# Altium footprint library Soldeerstation.PcbLib: 40 footprints (part 2 of 3)
Each footprint in its own frame and in the unit in brackets; x right, y up, seen from the top. Pads: shape width x height; smd on the part's side, far side on the other; paste and mask are expansions set on the pad; w line width, h text height; cw(c..) or ccw(c..) is an arc to the next point about the centre after c.
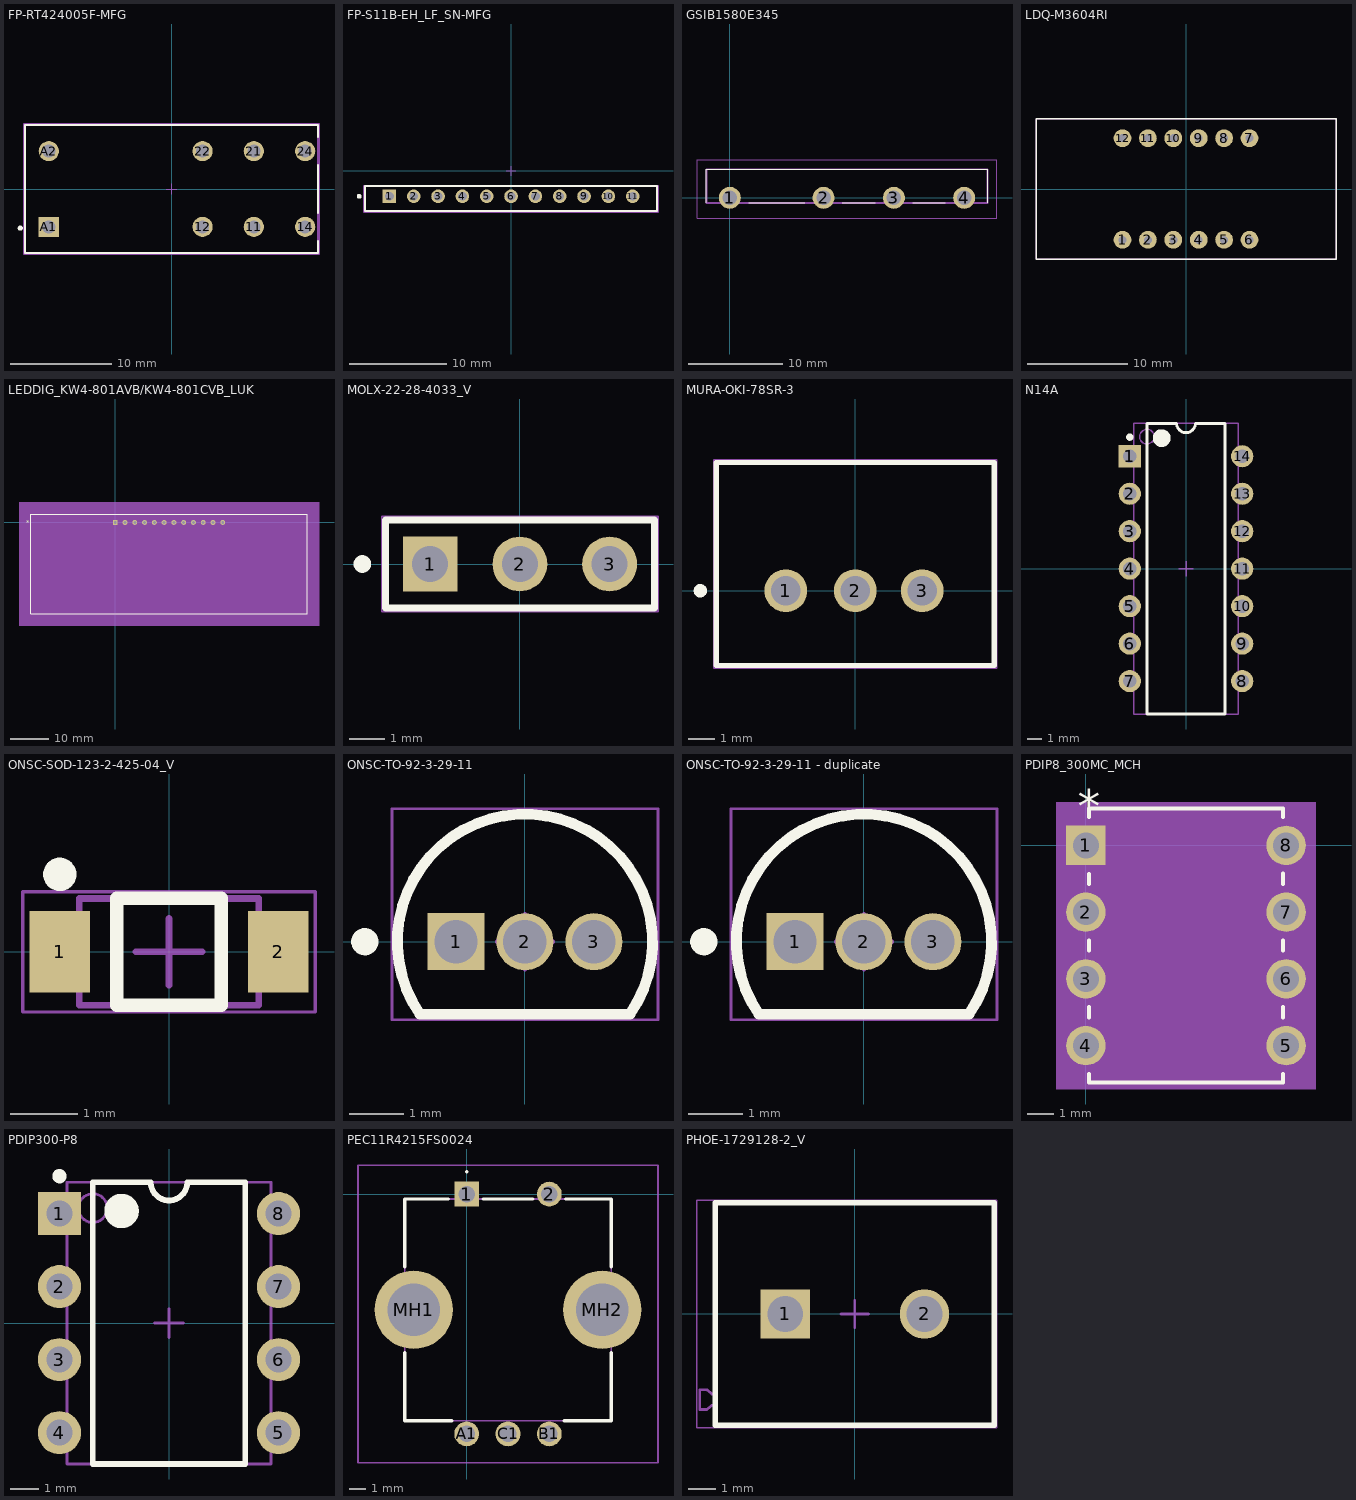
[diagram p1: the footprints below, top view; thin cyan lines are the x and y axes]

## FP-RT424005F-MFG [mm]
pads (8):
  round 2 hole 1.3 paste-1000 mask+0: 11(8.15,-3.75) 12(3.07,-3.75) 14(13.23,-3.75) 21(8.15,3.75) 22(3.07,3.75) 24(13.23,3.75) A2(-12.15,3.75)
  rect 2x2 hole 1.3 paste-1000 mask+0: A1(-12.15,-3.75)
Top Overlay:
  circle w0.25: c-14.975,-3.875 r0.125
  lines w0.2: 14.5,-5.125 14.5,-6.35 -14.5,-6.35 -14.5,6.35 14.5,6.35 14.5,5.125 ; 14.5,-2.375 14.5,2.375
Top Assembly:
  lines w0.2: -14.6,-6.45 -14.6,6.45 14.6,6.45 14.6,-6.45 -14.6,-6.45
  text ".Designator" at 0,0.188 h1
Top 3D Body:
  lines w0.2: -14.5,-6.35 -14.5,6.35 14.5,6.35 14.5,-6.35 -14.5,-6.35
Top Courtyard:
  lines w0.2: -14.6,-6.45 -14.6,6.45 14.6,6.45 14.6,-6.45 -14.6,-6.45
Top Component Center:
  lines w0.1: -0.5,0 0.5,0 ; 0,-0.5 0,0.5
3D body "Relay_TE_Connectivity_RT424005F_eec.STEP": height 0.25, standoff 0, extent -14.6,-6.45 14.6,6.45

## FP-S11B-EH_LF_SN-MFG [mm]
pads (11):
  rect 1.4x1.4 hole 0.9 paste-1000 mask+0: 1(-12.5,-2.6)
  round 1.4 hole 0.9 paste-1000 mask+0: 2(-10,-2.6) 3(-7.5,-2.6) 4(-5,-2.6) 5(-2.5,-2.6) 6(0,-2.6) 7(2.5,-2.6) 8(5,-2.6) 9(7.5,-2.6) 10(10,-2.6) 11(12.5,-2.6)
Top Overlay:
  circle w0.25: c-15.6,-2.6 r0.125
  lines w0.2: -15,-4.1 -15,-1.524 15,-1.524 15,-4.1 -15,-4.1
Top Assembly:
  lines w0.2: -15.1,-4.2 -15.1,-1.524 15.1,-1.524 15.1,-4.2 -15.1,-4.2
  text ".Designator" at 0,0.188 h1
Top 3D Body:
  lines w0.2: -15,-4.191 -15,-1.524 15,-1.524 15,-4.191 -15,-4.191
Top Courtyard:
  lines w0.2: -15.1,-4.2 -15.1,-1.524 15.1,-1.524 15.1,-4.2 -15.1,-4.2
Top Component Center:
  lines w0.1: -0.5,0 0.5,0 ; 0,-0.5 0,0.5
3D body "Conn_JST_S11B-EH_LF_SN_eec.STEP": height 0.25, standoff 0, extent -15.1,-6.749 15.1,1.651

## GSIB1580E345 [mm]
pads (4):
  round 2.34 hole 1.56: 1(0,0) 2(10,0) 3(17.5,0) 4(25,0)
Top Overlay:
  lines w0.1: -2.5,-0.55 -2.5,3.05 27.5,3.05 27.5,-0.55 ; 2,-0.55 8,-0.55 ; 12,-0.55 15.5,-0.55 ; 19.5,-0.55 23,-0.55
Top Courtyard:
  lines w0.2: -2.5,-0.55 27.5,-0.55 27.5,3.05 -2.5,3.05 -2.5,-0.55
Bottom Assembly:
  lines w0.1: -3.5,-2.17 28.5,-2.17 28.5,4.05 -3.5,4.05 -3.5,-2.17
3D body "GSIB1580-E3_45.stp": height 5.8, standoff -4.65, extent -10,-3.376 10,3.376

## LDQ-M3604RI [mil]
pads (12):
  round 70 hole 31.5: 1(-250,-200) 2(-150,-200) 3(-50,-200) 4(50,-200) 5(150,-200) 6(250,-200) 7(250,200) 8(150,200) 9(50,200) 10(-50,200) 11(-150,200) 12(-250,200)
Top Overlay:
  lines w5: -590.55,-275.59 -590.55,275.59 590.55,275.59 590.55,-275.59 -590.55,-275.59
Top 3D Body:
  lines w5: -590.55,-275.59 590.55,-275.59 590.55,275.59 -590.55,275.59 -590.55,-275.59
3D body "step_temp.STEP": height 283.46, standoff -240.16, extent -590.55,-275.59 590.55,275.59

## LEDDIG_KW4-801AVB/KW4-801CVB_LUK [mil]
pads (12):
  rect 50x50 hole 30 mask+0: 1(0,0)
  round 50 hole 30 mask+0: 2(100,0) 3(200,0) 4(300,0) 5(400,0) 6(500,0) 7(600,0) 8(700,0) 9(800,0) 10(900,0) 11(1000,0) 12(1100,0)
Top Overlay:
  lines w6: -865.5,-936.7 -865.5,86.3 1965.5,86.3 1965.5,-936.7 -865.5,-936.7
  text "*" at -913,-25 h50
Top Assembly:
  region: 2085.5,-1056.7 -985.5,-1056.7 -985.5,206.3 2085.5,206.3
Top 3D Body:
  lines w1: -860.5,-931.7 -860.5,81.3 1960.5,81.3 1960.5,-931.7 -860.5,-931.7
  text "*" at -863,-25 h50
Top Courtyard:
  region: 1970.5,-941.7 -870.5,-941.7 -870.5,91.3 1970.5,91.3
  lines w6: -870.5,-941.7 1970.5,-941.7 1970.5,91.3 -870.5,91.3 -870.5,-941.7
3D body: height 10, standoff 0, extent 0,0 10,10

## MOLX-22-28-4033_V [mm] "THD, 3-Leads, Body 7.62x2.49mm, Pitch 2.54mm"
height 8.38
pads (3):
  rect 1.55x1.55 hole 1.02: 1(-2.54,0)
  round 1.55 hole 1.02: 2(0,0) 3(2.54,0)
Top Overlay:
  circle w0.25: c-4.46,0 r0.125
  lines w0.2: -3.81,-1.245 3.81,-1.245 3.81,1.245 -3.81,1.245 -3.81,-1.245
Top 3D Body:
  lines w0.1: -3.81,-1.245 3.81,-1.245 3.81,1.245 -3.81,1.245 -3.81,-1.245
Top Courtyard:
  lines w0.05: -3.91,-1.345 -3.91,1.345 3.91,1.345 3.91,-1.345 -3.91,-1.345
  lines w0.1: -0.5,0 0.5,0 ; 0,-0.5 0,0.5
3D body "022284033.stp": height 8.38, standoff -3.18, extent -3.81,-1.245 3.81,1.245

## MURA-OKI-78SR-3 [mm] "THMT, 3-Leads, Body 10.4x7.6mm"
height 16.5
pads (3):
  round 1.6 hole 1.1: 1(-2.6,0) 2(0,0) 3(2.5,0)
Top Overlay:
  circle w0.25: c-5.8,0 r0.125
  lines w0.2: -5.2,-2.8 -5.2,4.8 5.2,4.8 5.2,-2.8 -5.2,-2.8
Top 3D Body:
  lines w0.1: -5.2,-2.8 5.2,-2.8 5.2,4.8 -5.2,4.8 -5.2,-2.8
Top Courtyard:
  lines w0.05: -5.3,-2.9 5.3,-2.9 5.3,4.9 -5.3,4.9 -5.3,-2.9
  lines w0.1: -0.5,0 0.5,0 ; 0,-0.5 0,0.5
3D body: height 16.5, standoff 0, extent -5.2,-2.8 5.2,4.8

## N14A [mm] "DIP, 14-Pin, Row Spacing 7.62 mm, Pitch 2.54 mm"
height 5.08
pads (14):
  rect 1.5x1.5 hole 0.9: 1(-3.81,7.62)
  round 1.5 hole 0.9: 2(-3.81,5.08) 3(-3.81,2.54) 4(-3.81,0) 5(-3.81,-2.54) 6(-3.81,-5.08) 7(-3.81,-7.62) 8(3.81,-7.62) 9(3.81,-5.08) 10(3.81,-2.54) 11(3.81,0) 12(3.81,2.54) 13(3.81,5.08) 14(3.81,7.62)
Top Overlay:
  circle w0.6: c-1.65,8.85 r0.3
  circle w0.25: c-3.81,8.92 r0.125
  lines w0.2: -2.65,-9.85 2.65,-9.85 2.65,9.85 0.635,9.85 cw(c0,9.85) -0.635,9.85 -2.65,9.85 -2.65,-9.85
Top 3D Body:
  circle w0.1: c-2.65,8.95 r0.5
  lines w0.1: -3.55,-9.85 3.55,-9.85 3.55,9.85 -3.55,9.85 -3.55,-9.85
Top Courtyard:
  lines w0.1: -0.5,0 0.5,0 ; 0,-0.5 0,0.5
3D body: height 5.33, standoff 0, extent -3.55,-9.85 3.55,9.85

## ONSC-SOD-123-2-425-04_V [mm] "SOD, 2-Leads, Body 2.69x1.6mm"
height 1.35
pads (2):
  rect 0.91x1.22 smd: 1(-1.635,0) 2(1.635,0)
Top Overlay:
  circle w0.25: c-1.635,1.16 r0.125
  lines w0.2: -0.78,-0.8 -0.78,0.8 0.78,0.8 0.78,-0.8 -0.78,-0.8
Top 3D Body:
  lines w0.1: -1.345,-0.8 -1.345,0.8 1.345,0.8 1.345,-0.8 -1.345,-0.8
Top Courtyard:
  lines w0.05: -2.19,-0.9 -2.19,0.9 2.19,0.9 2.19,-0.9 -2.19,-0.9
  lines w0.1: -0.5,0 0.5,0 ; 0,-0.5 0,0.5
3D body: height 1.35, standoff 0, extent -1.345,-0.8 1.345,0.8

## ONSC-TO-92-3-29-11 [mm] "TO, 3-Leads, Body Dia 4.7mm, Pitch 1.27mm"
height 7.87
pads (3):
  rect 1.05x1.05 hole 0.8: 1(-1.27,0)
  round 1.05 hole 0.8: 2(0,0) 3(1.27,0)
Top Overlay:
  circle w0.25: c-2.95,0 r0.125
  lines w0.2: -1.934,-1.335 cw(c0,0) 1.934,-1.335 -1.934,-1.335
Top 3D Body:
  lines w0.1: -1.934,-1.335 cw(c0,0) 1.934,-1.335 -1.934,-1.335
Top Courtyard:
  lines w0.05: -2.45,-1.435 2.45,-1.435 2.45,2.45 -2.45,2.45 -2.45,-1.435
  lines w0.1: -0.5,0 0.5,0 ; 0,-0.5 0,0.5
3D body: height 7.87, standoff 2.54, extent -2.349,-1.334 2.357,2.359

## ONSC-TO-92-3-29-11 - duplicate [mm] "TO, 3-Leads, Body Dia 4.7mm, Pitch 1.27mm"
height 7.87
pads (3):
  rect 1.05x1.05 hole 0.8: 1(-1.27,0)
  round 1.05 hole 0.8: 2(0,0) 3(1.27,0)
Top Overlay:
  circle w0.25: c-2.95,0 r0.125
  lines w0.2: -1.934,-1.335 cw(c0,0) 1.934,-1.335 -1.934,-1.335
Top 3D Body:
  lines w0.1: -1.934,-1.335 cw(c0,0) 1.934,-1.335 -1.934,-1.335
Top Courtyard:
  lines w0.05: -2.45,-1.435 2.45,-1.435 2.45,2.45 -2.45,2.45 -2.45,-1.435
  lines w0.1: -0.5,0 0.5,0 ; 0,-0.5 0,0.5
3D body: height 7.87, standoff 2.54, extent -2.349,-1.334 2.357,2.359

## PCBComponent_1 [mm]

## PDIP8_300MC_MCH [mil]
pads (8):
  rect 59x59 hole 39 mask+0: 1(0,0)
  round 59 hole 39 mask+0: 2(0,-100) 3(0,-200) 4(0,-300) 5(300,-300) 6(300,-200) 7(300,-100) 8(300,0)
Top Overlay:
  lines w6: 5,-342.31 5,-355 295,-355 295,-342.31 ; 5,-257.69 5,-242.31 ; 5,-157.69 5,-142.31 ; 5,-57.69 5,-42.6 ; 5,42.6 5,55 295,55 295,42.31 ; 295,-257.69 295,-242.31 ; 295,-157.69 295,-142.31 ; 295,-57.69 295,-42.31
  text "*" at -12.5,34.5 h50
Top Assembly:
  region: 344.5,-365 -44.5,-365 -44.5,65 344.5,65
Top 3D Body:
  lines w1: -19.5,-319.5 10,-319.5 10,-280.5 -19.5,-280.5 -19.5,-319.5 ; -19.5,-219.5 10,-219.5 10,-180.5 -19.5,-180.5 -19.5,-219.5 ; -19.5,-119.5 10,-119.5 10,-80.5 -19.5,-80.5 -19.5,-119.5 ; -19.5,-19.5 10,-19.5 10,19.5 -19.5,19.5 -19.5,-19.5 ; 10,-350 10,50 290,50 290,-350 10,-350 ; 290,-319.5 319.5,-319.5 319.5,-280.5 290,-280.5 290,-319.5 ; 290,-219.5 319.5,-219.5 319.5,-180.5 290,-180.5 290,-219.5 ; 290,-119.5 319.5,-119.5 319.5,-80.5 290,-80.5 290,-119.5 ; 290,-19.5 319.5,-19.5 319.5,19.5 290,19.5 290,-19.5
  text "*" at 7.5,-25 h50
Top Courtyard:
  region: 300,-340 339.5,-340 339.5,40 300,40 300,60 0,60 0,40 -39.5,40 -39.5,-340 0,-340 0,-360 300,-360
  lines w6: -39.5,-340 0,-340 0,-360 300,-360 300,-340 339.5,-340 339.5,40 300,40 300,60 0,60 0,40 -39.5,40 -39.5,-340
3D body "PDIP8_300MC_MCH.step": height 215.12, standoff -100, extent -5,-350 315,50

## PDIP300-P8 [mm] "8-Pin Plastic Dual In-Line Package (PDIP)"
height 5.34
pads (8):
  rect 1.5x1.5 hole 0.9: 1(-3.81,3.81)
  round 1.5 hole 0.9: 2(-3.81,1.27) 3(-3.81,-1.27) 4(-3.81,-3.81) 5(3.81,-3.81) 6(3.81,-1.27) 7(3.81,1.27) 8(3.81,3.81)
Top Overlay:
  circle w0.25: c-3.81,5.11 r0.125
  circle w0.6: c-1.65,3.9 r0.3
  lines w0.2: -2.65,-4.9 -2.65,4.9 -0.635,4.9 ccw(c0,4.9) 0.635,4.9 2.65,4.9 2.65,-4.9 -2.65,-4.9
Top 3D Body:
  circle w0.1: c-2.65,4 r0.5
  lines w0.1: -3.55,-4.9 -3.55,4.9 3.55,4.9 3.55,-4.9 -3.55,-4.9
Top Courtyard:
  lines w0.1: -0.5,0 0.5,0 ; 0,-0.5 0,0.5
3D body: height 4.32, standoff 0, extent -3.55,-4.9 3.55,4.9

## PEC11R4215FS0024 [mm]
pads (7):
  rect 1.5x1.5 hole 1: 1(0,0)
  round 1.5 hole 1: 2(5,0) A1(0,-14.5) B1(5,-14.5) C1(2.5,-14.5)
  round 4.74 hole 3.16: MH1(-3.2,-7) MH2(8.2,-7)
Top Overlay:
  lines w0.1: 0,1.3 cw(c0,1.35) 0,1.4 cw(c0,1.35) 0,1.3
  lines w0.2: -3.75,-9.6 -3.75,-13.7 -0.9,-13.7 ; -3.75,-4.4 -3.75,-0.3 -1.1,-0.3 ; 1,-0.3 4,-0.3 ; 5.9,-13.7 8.75,-13.7 8.75,-9.6 ; 6,-0.3 8.75,-0.3 8.75,-4.4
Top Courtyard:
  lines w0.1: -3.75,-13.7 -3.75,-0.3 8.75,-0.3 8.75,-13.7 -3.75,-13.7
Bottom Assembly:
  lines w0.1: -6.57,-16.25 -6.57,1.75 11.57,1.75 11.57,-16.25 -6.57,-16.25
3D body "PEC11R-4215F-S0024.stp": height 5.8, standoff -4.65, extent -10,-3.376 10,3.376

## PHOE-1729128-2_V [mm] "Receptacle, 2-Leads, Body 8.1x10.16mm, Pitch 5.08mm"
height 10.013
pads (2):
  rect 1.8x1.8 hole 1.3: 1(-2.54,0)
  round 1.8 hole 1.3: 2(2.54,0)
Top Overlay:
  lines w0.2: -5.08,-4.05 -5.08,4.05 5.08,4.05 5.08,-4.05 -5.08,-4.05
Top 3D Body:
  lines w0.1: -5.08,-3.327 -5.209,-3.327 -5.387,-3.477 -5.65,-3.477 -5.65,-2.763 ; -5.08,-2.913 -5.209,-2.913 -5.387,-2.763 -5.65,-2.763 ; -5.65,-2.763 -5.65,-2.763 ; -5.08,-4.05 -5.08,4.05 5.08,4.05 5.08,-4.05 -5.08,-4.05
Top Courtyard:
  lines w0.05: -5.75,-4.15 -5.75,4.15 5.18,4.15 5.18,-4.15 -5.75,-4.15
  lines w0.1: -0.5,0 0.5,0 ; 0,-0.5 0,0.5
3D body "1729128.stp": height 10.01, standoff -3.49, extent -5.65,-4.05 5.08,4.05